# Altium integrated library WE-PD3_rev15a.intlib: 65 symbols
Pins are listed as number, name and electrical type; pins without a type are passive.

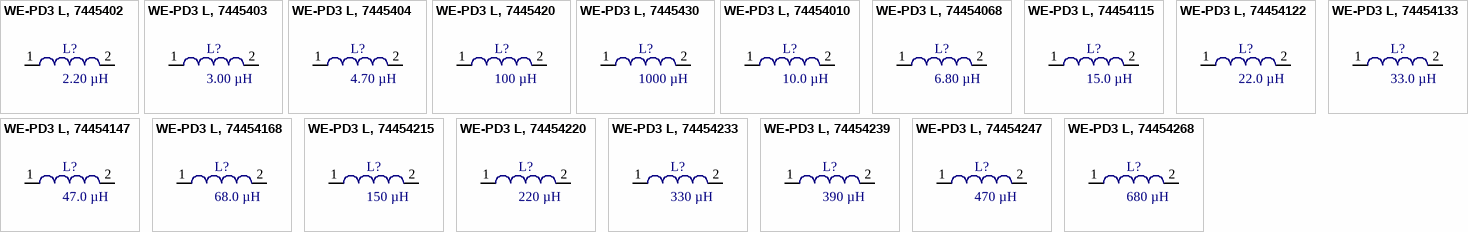
[diagram p0: symbols WE-PD3 L, 7445402 to WE-PD3 L, 74454268]

## WE-PD3 L, 7445402
designator L?, comment 2.20 µH
SMD Shielded Power Inductor WE-PD3, L=2.20 µH; partNo: 7445402; Manufacturer: Würth Elektronik eiSos GmbH & Co.KG; Inductance: 2.20 µH; ComponentLink1Description: Manufacturer; ComponentLink1URL: http://www.we-online.de; Created by: Christin Zierenner; Created Date: August 2009; ComponentLink2Description: Datasheet; ComponentLink2URL: http://www.we-online.de/katalog/media/pdf/7445402.pdf
footprint WE-PD3 L (SMD Inductor, 2-Leads, Body 12,7x10,3mm)
pins: 1, 2

## WE-PD3 L, 7445403
designator L?, comment 3.00 µH
SMD Shielded Power Inductor WE-PD3, L=3.00 µH; partNo: 7445403; Manufacturer: Würth Elektronik eiSos GmbH & Co.KG; Inductance: 3.00 µH; ComponentLink1Description: Manufacturer; ComponentLink1URL: http://www.we-online.de; Created by: Christin Zierenner; Created Date: August 2009; ComponentLink2Description: Datasheet; ComponentLink2URL: http://www.we-online.de/katalog/media/pdf/7445403.pdf
footprint WE-PD3 L (SMD Inductor, 2-Leads, Body 12,7x10,3mm)
pins: 1, 2

## WE-PD3 L, 7445404
designator L?, comment 4.70 µH
SMD Shielded Power Inductor WE-PD3, L=4.70 µH; partNo: 7445404; Manufacturer: Würth Elektronik eiSos GmbH & Co.KG; Inductance: 4.70 µH; ComponentLink1Description: Manufacturer; ComponentLink1URL: http://www.we-online.de; Created by: Christin Zierenner; Created Date: August 2009; ComponentLink2Description: Datasheet; ComponentLink2URL: http://www.we-online.de/katalog/media/pdf/7445404.pdf
footprint WE-PD3 L (SMD Inductor, 2-Leads, Body 12,7x10,3mm)
pins: 1, 2

## WE-PD3 L, 7445420
designator L?, comment 100 µH
SMD Shielded Power Inductor WE-PD3, L=100 µH; partNo: 7445420; Manufacturer: Würth Elektronik eiSos GmbH & Co.KG; Inductance: 100 µH; ComponentLink1Description: Manufacturer; ComponentLink1URL: http://www.we-online.de; Created by: Christin Zierenner; Created Date: August 2009; ComponentLink2Description: Datasheet; ComponentLink2URL: http://www.we-online.de/katalog/media/pdf/7445420.pdf
footprint WE-PD3 L (SMD Inductor, 2-Leads, Body 12,7x10,3mm)
pins: 1, 2

## WE-PD3 L, 7445430
designator L?, comment 1000 µH
SMD Shielded Power Inductor WE-PD3, L=1000 µH; partNo: 7445430; Manufacturer: Würth Elektronik eiSos GmbH & Co.KG; Inductance: 1000 µH; ComponentLink1Description: Manufacturer; ComponentLink1URL: http://www.we-online.de; Created by: Christin Zierenner; Created Date: August 2009; ComponentLink2Description: Datasheet; ComponentLink2URL: http://www.we-online.de/katalog/media/pdf/7445430.pdf
footprint WE-PD3 L (SMD Inductor, 2-Leads, Body 12,7x10,3mm)
pins: 1, 2

## WE-PD3 L, 74454010
designator L?, comment 10.0 µH
SMD Shielded Power Inductor WE-PD3, L=10.0 µH; partNo: 74454010; Manufacturer: Würth Elektronik eiSos GmbH & Co.KG; Inductance: 10.0 µH; ComponentLink1Description: Manufacturer; ComponentLink1URL: http://www.we-online.de; Created by: Christin Zierenner; Created Date: August 2009; ComponentLink2Description: Datasheet; ComponentLink2URL: http://www.we-online.de/katalog/media/pdf/74454010.pdf
footprint WE-PD3 L (SMD Inductor, 2-Leads, Body 12,7x10,3mm)
pins: 1, 2

## WE-PD3 L, 74454068
designator L?, comment 6.80 µH
SMD Shielded Power Inductor WE-PD3, L=6.80 µH; partNo: 74454068; Manufacturer: Würth Elektronik eiSos GmbH & Co.KG; Inductance: 6.80 µH; ComponentLink1Description: Manufacturer; ComponentLink1URL: http://www.we-online.de; Created by: Christin Zierenner; Created Date: August 2009; ComponentLink2Description: Datasheet; ComponentLink2URL: http://www.we-online.de/katalog/media/pdf/74454068.pdf
footprint WE-PD3 L (SMD Inductor, 2-Leads, Body 12,7x10,3mm)
pins: 1, 2

## WE-PD3 L, 74454115
designator L?, comment 15.0 µH
SMD Shielded Power Inductor WE-PD3, L=15.0 µH; partNo: 74454115; Manufacturer: Würth Elektronik eiSos GmbH & Co.KG; Inductance: 15.0 µH; ComponentLink1Description: Manufacturer; ComponentLink1URL: http://www.we-online.de; Created by: Christin Zierenner; Created Date: August 2009; ComponentLink2Description: Datasheet; ComponentLink2URL: http://www.we-online.de/katalog/media/pdf/74454115.pdf
footprint WE-PD3 L (SMD Inductor, 2-Leads, Body 12,7x10,3mm)
pins: 1, 2

## WE-PD3 L, 74454122
designator L?, comment 22.0 µH
SMD Shielded Power Inductor WE-PD3, L=22.0 µH; partNo: 74454122; Manufacturer: Würth Elektronik eiSos GmbH & Co.KG; Inductance: 22.0 µH; ComponentLink1Description: Manufacturer; ComponentLink1URL: http://www.we-online.de; Created by: Christin Zierenner; Created Date: August 2009; ComponentLink2Description: Datasheet; ComponentLink2URL: http://www.we-online.de/katalog/media/pdf/74454122.pdf
footprint WE-PD3 L (SMD Inductor, 2-Leads, Body 12,7x10,3mm)
pins: 1, 2

## WE-PD3 L, 74454133
designator L?, comment 33.0 µH
SMD Shielded Power Inductor WE-PD3, L=33.0 µH; partNo: 74454133; Manufacturer: Würth Elektronik eiSos GmbH & Co.KG; Inductance: 33.0 µH; ComponentLink1Description: Manufacturer; ComponentLink1URL: http://www.we-online.de; Created by: Christin Zierenner; Created Date: August 2009; ComponentLink2Description: Datasheet; ComponentLink2URL: http://www.we-online.de/katalog/media/pdf/74454133.pdf
footprint WE-PD3 L (SMD Inductor, 2-Leads, Body 12,7x10,3mm)
pins: 1, 2

## WE-PD3 L, 74454147
designator L?, comment 47.0 µH
SMD Shielded Power Inductor WE-PD3, L=47.0 µH; partNo: 74454147; Manufacturer: Würth Elektronik eiSos GmbH & Co.KG; Inductance: 47.0 µH; ComponentLink1Description: Manufacturer; ComponentLink1URL: http://www.we-online.de; Created by: Christin Zierenner; Created Date: August 2009; ComponentLink2Description: Datasheet; ComponentLink2URL: http://www.we-online.de/katalog/media/pdf/74454147.pdf
footprint WE-PD3 L (SMD Inductor, 2-Leads, Body 12,7x10,3mm)
pins: 1, 2

## WE-PD3 L, 74454168
designator L?, comment 68.0 µH
SMD Shielded Power Inductor WE-PD3, L=68.0 µH; partNo: 74454168; Manufacturer: Würth Elektronik eiSos GmbH & Co.KG; Inductance: 68.0 µH; ComponentLink1Description: Manufacturer; ComponentLink1URL: http://www.we-online.de; Created by: Christin Zierenner; Created Date: August 2009; ComponentLink2Description: Datasheet; ComponentLink2URL: http://www.we-online.de/katalog/media/pdf/74454168.pdf
footprint WE-PD3 L (SMD Inductor, 2-Leads, Body 12,7x10,3mm)
pins: 1, 2

## WE-PD3 L, 74454215
designator L?, comment 150 µH
SMD Shielded Power Inductor WE-PD3, L=150 µH; partNo: 74454215; Manufacturer: Würth Elektronik eiSos GmbH & Co.KG; Inductance: 150 µH; ComponentLink1Description: Manufacturer; ComponentLink1URL: http://www.we-online.de; Created by: Christin Zierenner; Created Date: August 2009; ComponentLink2Description: Datasheet; ComponentLink2URL: http://www.we-online.de/katalog/media/pdf/74454215.pdf
footprint WE-PD3 L (SMD Inductor, 2-Leads, Body 12,7x10,3mm)
pins: 1, 2

## WE-PD3 L, 74454220
designator L?, comment 220 µH
SMD Shielded Power Inductor WE-PD3, L=220 µH; partNo: 74454220; Manufacturer: Würth Elektronik eiSos GmbH & Co.KG; Inductance: 220 µH; ComponentLink1Description: Manufacturer; ComponentLink1URL: http://www.we-online.de; Created by: Christin Zierenner; Created Date: August 2009; ComponentLink2Description: Datasheet; ComponentLink2URL: http://www.we-online.de/katalog/media/pdf/74454220.pdf
footprint WE-PD3 L (SMD Inductor, 2-Leads, Body 12,7x10,3mm)
pins: 1, 2

## WE-PD3 L, 74454233
designator L?, comment 330 µH
SMD Shielded Power Inductor WE-PD3, L=330 µH; partNo: 74454233; Manufacturer: Würth Elektronik eiSos GmbH & Co.KG; Inductance: 330 µH; ComponentLink1Description: Manufacturer; ComponentLink1URL: http://www.we-online.de; Created by: Christin Zierenner; Created Date: August 2009; ComponentLink2Description: Datasheet; ComponentLink2URL: http://www.we-online.de/katalog/media/pdf/74454233.pdf
footprint WE-PD3 L (SMD Inductor, 2-Leads, Body 12,7x10,3mm)
pins: 1, 2

## WE-PD3 L, 74454239
designator L?, comment 390 µH
SMD Shielded Power Inductor WE-PD3, L=390 µH; partNo: 74454239; Manufacturer: Würth Elektronik eiSos GmbH & Co.KG; Inductance: 390 µH; ComponentLink1Description: Manufacturer; ComponentLink1URL: http://www.we-online.de; Created by: Christin Zierenner; Created Date: August 2009; ComponentLink2Description: Datasheet; ComponentLink2URL: http://www.we-online.de/katalog/media/pdf/74454239.pdf
footprint WE-PD3 L (SMD Inductor, 2-Leads, Body 12,7x10,3mm)
pins: 1, 2

## WE-PD3 L, 74454247
designator L?, comment 470 µH
SMD Shielded Power Inductor WE-PD3, L=470 µH; partNo: 74454247; Manufacturer: Würth Elektronik eiSos GmbH & Co.KG; Inductance: 470 µH; ComponentLink1Description: Manufacturer; ComponentLink1URL: http://www.we-online.de; Created by: Christin Zierenner; Created Date: August 2009; ComponentLink2Description: Datasheet; ComponentLink2URL: http://www.we-online.de/katalog/media/pdf/74454247.pdf
footprint WE-PD3 L (SMD Inductor, 2-Leads, Body 12,7x10,3mm)
pins: 1, 2

## WE-PD3 L, 74454268
designator L?, comment 680 µH
SMD Shielded Power Inductor WE-PD3, L=680 µH; partNo: 74454268; Manufacturer: Würth Elektronik eiSos GmbH & Co.KG; Inductance: 680 µH; ComponentLink1Description: Manufacturer; ComponentLink1URL: http://www.we-online.de; Created by: Christin Zierenner; Created Date: August 2009; ComponentLink2Description: Datasheet; ComponentLink2URL: http://www.we-online.de/katalog/media/pdf/74454268.pdf
footprint WE-PD3 L (SMD Inductor, 2-Leads, Body 12,7x10,3mm)
pins: 1, 2


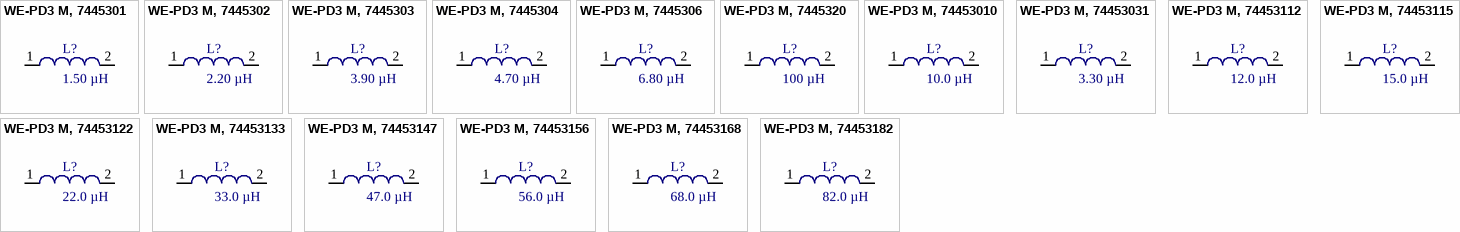
[diagram p1: symbols WE-PD3 M, 7445301 to WE-PD3 M, 74453182]

## WE-PD3 M, 7445301
designator L?, comment 1.50 µH
SMD Shielded Power Inductor WE-PD3, L=1.50 µH; partNo: 7445301; Manufacturer: Würth Elektronik eiSos GmbH; Inductance: 1.50 µH; ComponentLink1Description: Manufacturer; ComponentLink1URL: http://www.we-online.de; Created by: Christin Zierenner; Created Date: August 2009; ComponentLink2Description: Datasheet; ComponentLink2URL: http://www.we-online.de/katalog/media/pdf/7445301.pdf
footprint WE-PD3 M (SMD Inductor, 2-Leads, Body 12,7x10,3mm)
pins: 1, 2

## WE-PD3 M, 7445302
designator L?, comment 2.20 µH
SMD Shielded Power Inductor WE-PD3, L=2.20 µH; partNo: 7445302; Manufacturer: Würth Elektronik eiSos GmbH; Inductance: 2.20 µH; ComponentLink1Description: Manufacturer; ComponentLink1URL: http://www.we-online.de; Created by: Christin Zierenner; Created Date: August 2009; ComponentLink2Description: Datasheet; ComponentLink2URL: http://www.we-online.de/katalog/media/pdf/7445302.pdf
footprint WE-PD3 M (SMD Inductor, 2-Leads, Body 12,7x10,3mm)
pins: 1, 2

## WE-PD3 M, 7445303
designator L?, comment 3.90 µH
SMD Shielded Power Inductor WE-PD3, L=3.90 µH; partNo: 7445303; Manufacturer: Würth Elektronik eiSos GmbH; Inductance: 3.90 µH; ComponentLink1Description: Manufacturer; ComponentLink1URL: http://www.we-online.de; Created by: Christin Zierenner; Created Date: August 2009; ComponentLink2Description: Datasheet; ComponentLink2URL: http://www.we-online.de/katalog/media/pdf/7445303.pdf
footprint WE-PD3 M (SMD Inductor, 2-Leads, Body 12,7x10,3mm)
pins: 1, 2

## WE-PD3 M, 7445304
designator L?, comment 4.70 µH
SMD Shielded Power Inductor WE-PD3, L=4.70 µH; partNo: 7445304; Manufacturer: Würth Elektronik eiSos GmbH; Inductance: 4.70 µH; ComponentLink1Description: Manufacturer; ComponentLink1URL: http://www.we-online.de; Created by: Christin Zierenner; Created Date: August 2009; ComponentLink2Description: Datasheet; ComponentLink2URL: http://www.we-online.de/katalog/media/pdf/7445304.pdf
footprint WE-PD3 M (SMD Inductor, 2-Leads, Body 12,7x10,3mm)
pins: 1, 2

## WE-PD3 M, 7445306
designator L?, comment 6.80 µH
SMD Shielded Power Inductor WE-PD3, L=6.80 µH; partNo: 7445306; Manufacturer: Würth Elektronik eiSos GmbH; Inductance: 6.80 µH; ComponentLink1Description: Manufacturer; ComponentLink1URL: http://www.we-online.de; Created by: Christin Zierenner; Created Date: August 2009; ComponentLink2Description: Datasheet; ComponentLink2URL: http://www.we-online.de/katalog/media/pdf/7445306.pdf
footprint WE-PD3 M (SMD Inductor, 2-Leads, Body 12,7x10,3mm)
pins: 1, 2

## WE-PD3 M, 7445320
designator L?, comment 100 µH
SMD Shielded Power Inductor WE-PD3, L=100 µH; partNo: 7445320; Manufacturer: Würth Elektronik eiSos GmbH; Inductance: 100 µH; ComponentLink1Description: Manufacturer; ComponentLink1URL: http://www.we-online.de; Created by: Christin Zierenner; Created Date: August 2009; ComponentLink2Description: Datasheet; ComponentLink2URL: http://www.we-online.de/katalog/media/pdf/7445320.pdf
footprint WE-PD3 M (SMD Inductor, 2-Leads, Body 12,7x10,3mm)
pins: 1, 2

## WE-PD3 M, 74453010
designator L?, comment 10.0 µH
SMD Shielded Power Inductor WE-PD3, L=10.0 µH; partNo: 74453010; Manufacturer: Würth Elektronik eiSos GmbH; Inductance: 10.0 µH; ComponentLink1Description: Manufacturer; ComponentLink1URL: http://www.we-online.de; Created by: Christin Zierenner; Created Date: August 2009; ComponentLink2Description: Datasheet; ComponentLink2URL: http://www.we-online.de/katalog/media/pdf/74453010.pdf
footprint WE-PD3 M (SMD Inductor, 2-Leads, Body 12,7x10,3mm)
pins: 1, 2

## WE-PD3 M, 74453031
designator L?, comment 3.30 µH
SMD Shielded Power Inductor WE-PD3, L=3.30 µH; partNo: 74453031; Manufacturer: Würth Elektronik eiSos GmbH; Inductance: 3.30 µH; ComponentLink1Description: Manufacturer; ComponentLink1URL: http://www.we-online.de; Created by: Christin Zierenner; Created Date: August 2009; ComponentLink2Description: Datasheet; ComponentLink2URL: http://www.we-online.de/katalog/media/pdf/74453031.pdf
footprint WE-PD3 M (SMD Inductor, 2-Leads, Body 12,7x10,3mm)
pins: 1, 2

## WE-PD3 M, 74453112
designator L?, comment 12.0 µH
SMD Shielded Power Inductor WE-PD3, L=12.0 µH; partNo: 74453112; Manufacturer: Würth Elektronik eiSos GmbH; Inductance: 12.0 µH; ComponentLink1Description: Manufacturer; ComponentLink1URL: http://www.we-online.de; Created by: Christin Zierenner; Created Date: August 2009; ComponentLink2Description: Datasheet; ComponentLink2URL: http://www.we-online.de/katalog/media/pdf/74453112.pdf
footprint WE-PD3 M (SMD Inductor, 2-Leads, Body 12,7x10,3mm)
pins: 1, 2

## WE-PD3 M, 74453115
designator L?, comment 15.0 µH
SMD Shielded Power Inductor WE-PD3, L=15.0 µH; partNo: 74453115; Manufacturer: Würth Elektronik eiSos GmbH; Inductance: 15.0 µH; ComponentLink1Description: Manufacturer; ComponentLink1URL: http://www.we-online.de; Created by: Christin Zierenner; Created Date: August 2009; ComponentLink2Description: Datasheet; ComponentLink2URL: http://www.we-online.de/katalog/media/pdf/74453115.pdf
footprint WE-PD3 M (SMD Inductor, 2-Leads, Body 12,7x10,3mm)
pins: 1, 2

## WE-PD3 M, 74453122
designator L?, comment 22.0 µH
SMD Shielded Power Inductor WE-PD3, L=22.0 µH; partNo: 74453122; Manufacturer: Würth Elektronik eiSos GmbH; Inductance: 22.0 µH; ComponentLink1Description: Manufacturer; ComponentLink1URL: http://www.we-online.de; Created by: Christin Zierenner; Created Date: August 2009; ComponentLink2Description: Datasheet; ComponentLink2URL: http://www.we-online.de/katalog/media/pdf/74453122.pdf
footprint WE-PD3 M (SMD Inductor, 2-Leads, Body 12,7x10,3mm)
pins: 1, 2

## WE-PD3 M, 74453133
designator L?, comment 33.0 µH
SMD Shielded Power Inductor WE-PD3, L=33.0 µH; partNo: 74453133; Manufacturer: Würth Elektronik eiSos GmbH; Inductance: 33.0 µH; ComponentLink1Description: Manufacturer; ComponentLink1URL: http://www.we-online.de; Created by: Christin Zierenner; Created Date: August 2009; ComponentLink2Description: Datasheet; ComponentLink2URL: http://www.we-online.de/katalog/media/pdf/74453133.pdf
footprint WE-PD3 M (SMD Inductor, 2-Leads, Body 12,7x10,3mm)
pins: 1, 2

## WE-PD3 M, 74453147
designator L?, comment 47.0 µH
SMD Shielded Power Inductor WE-PD3, L=47.0 µH; partNo: 74453147; Manufacturer: Würth Elektronik eiSos GmbH; Inductance: 47.0 µH; ComponentLink1Description: Manufacturer; ComponentLink1URL: http://www.we-online.de; Created by: Christin Zierenner; Created Date: August 2009; ComponentLink2Description: Datasheet; ComponentLink2URL: http://www.we-online.de/katalog/media/pdf/74453147.pdf
footprint WE-PD3 M (SMD Inductor, 2-Leads, Body 12,7x10,3mm)
pins: 1, 2

## WE-PD3 M, 74453156
designator L?, comment 56.0 µH
SMD Shielded Power Inductor WE-PD3, L=56.0 µH; partNo: 74453156; Manufacturer: Würth Elektronik eiSos GmbH; Inductance: 56.0 µH; ComponentLink1Description: Manufacturer; ComponentLink1URL: http://www.we-online.de; Created by: Christin Zierenner; Created Date: August 2009; ComponentLink2Description: Datasheet; ComponentLink2URL: http://www.we-online.de/katalog/media/pdf/74453156.pdf
footprint WE-PD3 M (SMD Inductor, 2-Leads, Body 12,7x10,3mm)
pins: 1, 2

## WE-PD3 M, 74453168
designator L?, comment 68.0 µH
SMD Shielded Power Inductor WE-PD3, L=68.0 µH; partNo: 74453168; Manufacturer: Würth Elektronik eiSos GmbH; Inductance: 68.0 µH; ComponentLink1Description: Manufacturer; ComponentLink1URL: http://www.we-online.de; Created by: Christin Zierenner; Created Date: August 2009; ComponentLink2Description: Datasheet; ComponentLink2URL: http://www.we-online.de/katalog/media/pdf/74453168.pdf
footprint WE-PD3 M (SMD Inductor, 2-Leads, Body 12,7x10,3mm)
pins: 1, 2

## WE-PD3 M, 74453182
designator L?, comment 82.0 µH
SMD Shielded Power Inductor WE-PD3, L=82.0 µH; partNo: 74453182; Manufacturer: Würth Elektronik eiSos GmbH; Inductance: 82.0 µH; ComponentLink1Description: Manufacturer; ComponentLink1URL: http://www.we-online.de; Created by: Christin Zierenner; Created Date: August 2009; ComponentLink2Description: Datasheet; ComponentLink2URL: http://www.we-online.de/katalog/media/pdf/74453182.pdf
footprint WE-PD3 M (SMD Inductor, 2-Leads, Body 12,7x10,3mm)
pins: 1, 2


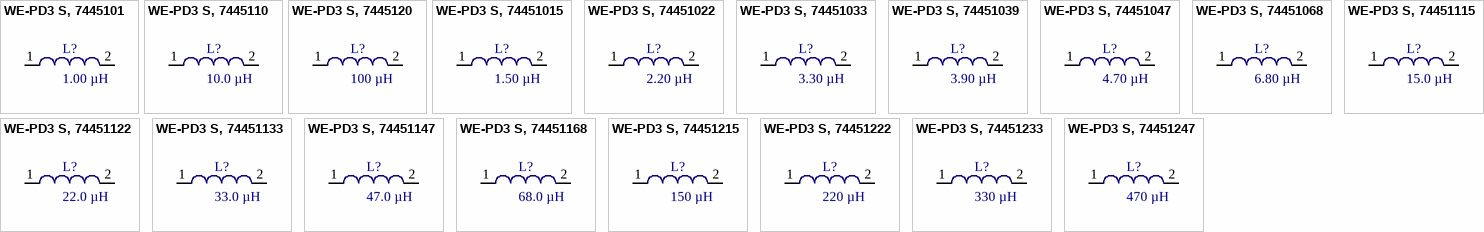
[diagram p2: symbols WE-PD3 S, 7445101 to WE-PD3 S, 74451247]

## WE-PD3 S, 7445101
designator L?, comment 1.00 µH
SMD Shielded Power Inductor WE-PD3, L=1.00 µH; partNo: 7445101; Manufacturer: Würth Elektronik eiSos GmbH; Inductance: 1.00 µH; ComponentLink1Description: Manufacturer; ComponentLink1URL: http://www.we-online.de; Created by: Christin Zierenner; Created Date: August 2009; ComponentLink2Description: Datasheet; ComponentLink2URL: http://www.we-online.de/katalog/media/pdf/7445101.pdf
footprint WE-PD3 S (SMD Inductor, 2-Leads, Body 6,6x4,4mm)
pins: 1, 2

## WE-PD3 S, 7445110
designator L?, comment 10.0 µH
SMD Shielded Power Inductor WE-PD3, L=10.0 µH; partNo: 7445110; Manufacturer: Würth Elektronik eiSos GmbH; Inductance: 10.0 µH; ComponentLink1Description: Manufacturer; ComponentLink1URL: http://www.we-online.de; Created by: Christin Zierenner; Created Date: August 2009; ComponentLink2Description: Datasheet; ComponentLink2URL: http://www.we-online.de/katalog/media/pdf/7445110.pdf
footprint WE-PD3 S (SMD Inductor, 2-Leads, Body 6,6x4,4mm)
pins: 1, 2

## WE-PD3 S, 7445120
designator L?, comment 100 µH
SMD Shielded Power Inductor WE-PD3, L=100 µH; partNo: 7445120; Manufacturer: Würth Elektronik eiSos GmbH; Inductance: 100 µH; ComponentLink1Description: Manufacturer; ComponentLink1URL: http://www.we-online.de; Created by: Christin Zierenner; Created Date: August 2009; ComponentLink2Description: Datasheet; ComponentLink2URL: http://www.we-online.de/katalog/media/pdf/7445120.pdf
footprint WE-PD3 S (SMD Inductor, 2-Leads, Body 6,6x4,4mm)
pins: 1, 2

## WE-PD3 S, 74451015
designator L?, comment 1.50 µH
SMD Shielded Power Inductor WE-PD3, L=1.50 µH; partNo: 74451015; Manufacturer: Würth Elektronik eiSos GmbH; Inductance: 1.50 µH; ComponentLink1Description: Manufacturer; ComponentLink1URL: http://www.we-online.de; Created by: Christin Zierenner; Created Date: August 2009; ComponentLink2Description: Datasheet; ComponentLink2URL: http://www.we-online.de/katalog/media/pdf/74451015.pdf
footprint WE-PD3 S (SMD Inductor, 2-Leads, Body 6,6x4,4mm)
pins: 1, 2

## WE-PD3 S, 74451022
designator L?, comment 2.20 µH
SMD Shielded Power Inductor WE-PD3, L=2.20 µH; partNo: 74451022; Manufacturer: Würth Elektronik eiSos GmbH; Inductance: 2.20 µH; ComponentLink1Description: Manufacturer; ComponentLink1URL: http://www.we-online.de; Created by: Christin Zierenner; Created Date: August 2009; ComponentLink2Description: Datasheet; ComponentLink2URL: http://www.we-online.de/katalog/media/pdf/74451022.pdf
footprint WE-PD3 S (SMD Inductor, 2-Leads, Body 6,6x4,4mm)
pins: 1, 2

## WE-PD3 S, 74451033
designator L?, comment 3.30 µH
SMD Shielded Power Inductor WE-PD3, L=3.30 µH; partNo: 74451033; Manufacturer: Würth Elektronik eiSos GmbH; Inductance: 3.30 µH; ComponentLink1Description: Manufacturer; ComponentLink1URL: http://www.we-online.de; Created by: Christin Zierenner; Created Date: August 2009; ComponentLink2Description: Datasheet; ComponentLink2URL: http://www.we-online.de/katalog/media/pdf/74451033.pdf
footprint WE-PD3 S (SMD Inductor, 2-Leads, Body 6,6x4,4mm)
pins: 1, 2

## WE-PD3 S, 74451039
designator L?, comment 3.90 µH
SMD Shielded Power Inductor WE-PD3, L=3.90 µH; partNo: 74451039; Manufacturer: Würth Elektronik eiSos GmbH; Inductance: 3.90 µH; ComponentLink1Description: Manufacturer; ComponentLink1URL: http://www.we-online.de; Created by: Christin Zierenner; Created Date: August 2009; ComponentLink2Description: Datasheet; ComponentLink2URL: http://www.we-online.de/katalog/media/pdf/74451039.pdf
footprint WE-PD3 S (SMD Inductor, 2-Leads, Body 6,6x4,4mm)
pins: 1, 2

## WE-PD3 S, 74451047
designator L?, comment 4.70 µH
SMD Shielded Power Inductor WE-PD3, L=4.70 µH; partNo: 74451047; Manufacturer: Würth Elektronik eiSos GmbH; Inductance: 4.70 µH; ComponentLink1Description: Manufacturer; ComponentLink1URL: http://www.we-online.de; Created by: Christin Zierenner; Created Date: August 2009; ComponentLink2Description: Datasheet; ComponentLink2URL: http://www.we-online.de/katalog/media/pdf/74451047.pdf
footprint WE-PD3 S (SMD Inductor, 2-Leads, Body 6,6x4,4mm)
pins: 1, 2

## WE-PD3 S, 74451068
designator L?, comment 6.80 µH
SMD Shielded Power Inductor WE-PD3, L=6.80 µH; partNo: 74451068; Manufacturer: Würth Elektronik eiSos GmbH; Inductance: 6.80 µH; ComponentLink1Description: Manufacturer; ComponentLink1URL: http://www.we-online.de; Created by: Christin Zierenner; Created Date: August 2009; ComponentLink2Description: Datasheet; ComponentLink2URL: http://www.we-online.de/katalog/media/pdf/74451068.pdf
footprint WE-PD3 S (SMD Inductor, 2-Leads, Body 6,6x4,4mm)
pins: 1, 2

## WE-PD3 S, 74451115
designator L?, comment 15.0 µH
SMD Shielded Power Inductor WE-PD3, L=15.0 µH; partNo: 74451115; Manufacturer: Würth Elektronik eiSos GmbH; Inductance: 15.0 µH; ComponentLink1Description: Manufacturer; ComponentLink1URL: http://www.we-online.de; Created by: Christin Zierenner; Created Date: August 2009; ComponentLink2Description: Datasheet; ComponentLink2URL: http://www.we-online.de/katalog/media/pdf/74451115.pdf
footprint WE-PD3 S (SMD Inductor, 2-Leads, Body 6,6x4,4mm)
pins: 1, 2

## WE-PD3 S, 74451122
designator L?, comment 22.0 µH
SMD Shielded Power Inductor WE-PD3, L=22.0 µH; partNo: 74451122; Manufacturer: Würth Elektronik eiSos GmbH; Inductance: 22.0 µH; ComponentLink1Description: Manufacturer; ComponentLink1URL: http://www.we-online.de; Created by: Christin Zierenner; Created Date: August 2009; ComponentLink2Description: Datasheet; ComponentLink2URL: http://www.we-online.de/katalog/media/pdf/74451122.pdf
footprint WE-PD3 S (SMD Inductor, 2-Leads, Body 6,6x4,4mm)
pins: 1, 2

## WE-PD3 S, 74451133
designator L?, comment 33.0 µH
SMD Shielded Power Inductor WE-PD3, L=33.0 µH; partNo: 74451133; Manufacturer: Würth Elektronik eiSos GmbH; Inductance: 33.0 µH; ComponentLink1Description: Manufacturer; ComponentLink1URL: http://www.we-online.de; Created by: Christin Zierenner; Created Date: August 2009; ComponentLink2Description: Datasheet; ComponentLink2URL: http://www.we-online.de/katalog/media/pdf/74451133.pdf
footprint WE-PD3 S (SMD Inductor, 2-Leads, Body 6,6x4,4mm)
pins: 1, 2

## WE-PD3 S, 74451147
designator L?, comment 47.0 µH
SMD Shielded Power Inductor WE-PD3, L=47.0 µH; partNo: 74451147; Manufacturer: Würth Elektronik eiSos GmbH; Inductance: 47.0 µH; ComponentLink1Description: Manufacturer; ComponentLink1URL: http://www.we-online.de; Created by: Christin Zierenner; Created Date: August 2009; ComponentLink2Description: Datasheet; ComponentLink2URL: http://www.we-online.de/katalog/media/pdf/74451147.pdf
footprint WE-PD3 S (SMD Inductor, 2-Leads, Body 6,6x4,4mm)
pins: 1, 2

## WE-PD3 S, 74451168
designator L?, comment 68.0 µH
SMD Shielded Power Inductor WE-PD3, L=68.0 µH; partNo: 74451168; Manufacturer: Würth Elektronik eiSos GmbH; Inductance: 68.0 µH; ComponentLink1Description: Manufacturer; ComponentLink1URL: http://www.we-online.de; Created by: Christin Zierenner; Created Date: August 2009; ComponentLink2Description: Datasheet; ComponentLink2URL: http://www.we-online.de/katalog/media/pdf/74451168.pdf
footprint WE-PD3 S (SMD Inductor, 2-Leads, Body 6,6x4,4mm)
pins: 1, 2

## WE-PD3 S, 74451215
designator L?, comment 150 µH
SMD Shielded Power Inductor WE-PD3, L=150 µH; partNo: 74451215; Manufacturer: Würth Elektronik eiSos GmbH; Inductance: 150 µH; ComponentLink1Description: Manufacturer; ComponentLink1URL: http://www.we-online.de; Created by: Christin Zierenner; Created Date: August 2009; ComponentLink2Description: Datasheet; ComponentLink2URL: http://www.we-online.de/katalog/media/pdf/74451215.pdf
footprint WE-PD3 S (SMD Inductor, 2-Leads, Body 6,6x4,4mm)
pins: 1, 2

## WE-PD3 S, 74451222
designator L?, comment 220 µH
SMD Shielded Power Inductor WE-PD3, L=220 µH; partNo: 74451222; Manufacturer: Würth Elektronik eiSos GmbH; Inductance: 220 µH; ComponentLink1Description: Manufacturer; ComponentLink1URL: http://www.we-online.de; Created by: Christin Zierenner; Created Date: August 2009; ComponentLink2Description: Datasheet; ComponentLink2URL: http://www.we-online.de/katalog/media/pdf/74451222.pdf
footprint WE-PD3 S (SMD Inductor, 2-Leads, Body 6,6x4,4mm)
pins: 1, 2

## WE-PD3 S, 74451233
designator L?, comment 330 µH
SMD Shielded Power Inductor WE-PD3, L=330 µH; partNo: 74451233; Manufacturer: Würth Elektronik eiSos GmbH; Inductance: 330 µH; ComponentLink1Description: Manufacturer; ComponentLink1URL: http://www.we-online.de; Created by: Christin Zierenner; Created Date: August 2009; ComponentLink2Description: Datasheet; ComponentLink2URL: http://www.we-online.de/katalog/media/pdf/74451233.pdf
footprint WE-PD3 S (SMD Inductor, 2-Leads, Body 6,6x4,4mm)
pins: 1, 2

## WE-PD3 S, 74451247
designator L?, comment 470 µH
SMD Shielded Power Inductor WE-PD3, L=470 µH; partNo: 74451247; Manufacturer: Würth Elektronik eiSos GmbH; Inductance: 470 µH; ComponentLink1Description: Manufacturer; ComponentLink1URL: http://www.we-online.de; Created by: Christin Zierenner; Created Date: August 2009; ComponentLink2Description: Datasheet; ComponentLink2URL: http://www.we-online.de/katalog/media/pdf/74451247.pdf
footprint WE-PD3 S (SMD Inductor, 2-Leads, Body 6,6x4,4mm)
pins: 1, 2


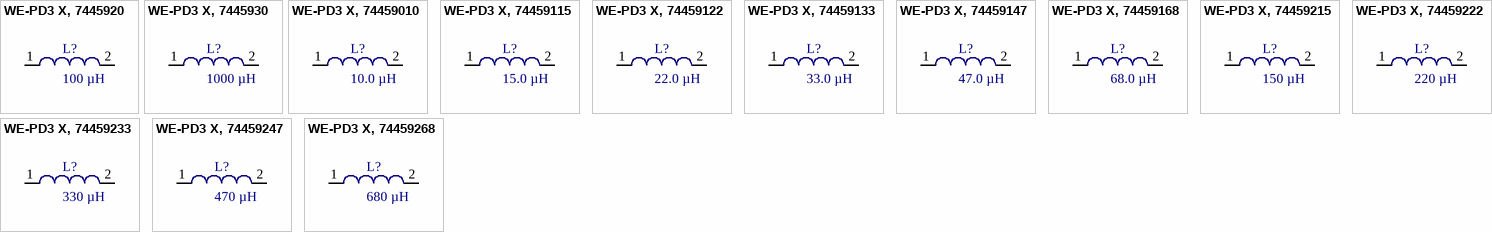
[diagram p3: symbols WE-PD3 X, 7445920 to WE-PD3 X, 74459268]

## WE-PD3 X, 7445920
designator L?, comment 100 µH
SMD Shielded Power Inductor WE-PD3, L=100 µH; partNo: 7445920; Manufacturer: Würth Elektronik eiSos GmbH & Co.KG; Inductance: 100 µH; ComponentLink1Description: Manufacturer; ComponentLink1URL: http://www.we-online.de; Created by: Christin Zierenner; Created Date: September 2009; ComponentLink2Description: Datasheet; ComponentLink2URL: http://www.we-online.de/katalog/media/pdf/7445920.pdf
footprint WE-PD3 X (SMD Inductor, 2-Leads, Body 18,5x15,2mm)
pins: 1, 2

## WE-PD3 X, 7445930
designator L?, comment 1000 µH
SMD Shielded Power Inductor WE-PD3, L=1000 µH; partNo: 7445930; Manufacturer: Würth Elektronik eiSos GmbH & Co.KG; Inductance: 1000 µH; ComponentLink1Description: Manufacturer; ComponentLink1URL: http://www.we-online.de; Created by: Christin Zierenner; Created Date: September 2009; ComponentLink2Description: Datasheet; ComponentLink2URL: http://www.we-online.de/katalog/media/pdf/7445930.pdf
footprint WE-PD3 X (SMD Inductor, 2-Leads, Body 18,5x15,2mm)
pins: 1, 2

## WE-PD3 X, 74459010
designator L?, comment 10.0 µH
SMD Shielded Power Inductor WE-PD3, L=10.0 µH; partNo: 74459010; Manufacturer: Würth Elektronik eiSos GmbH & Co.KG; Inductance: 10.0 µH; ComponentLink1Description: Manufacturer; ComponentLink1URL: http://www.we-online.de; Created by: Christin Zierenner; Created Date: September 2009; ComponentLink2Description: Datasheet; ComponentLink2URL: http://www.we-online.de/katalog/media/pdf/74459010.pdf
footprint WE-PD3 X (SMD Inductor, 2-Leads, Body 18,5x15,2mm)
pins: 1, 2

## WE-PD3 X, 74459115
designator L?, comment 15.0 µH
SMD Shielded Power Inductor WE-PD3, L=15.0 µH; partNo: 74459115; Manufacturer: Würth Elektronik eiSos GmbH & Co.KG; Inductance: 15.0 µH; ComponentLink1Description: Manufacturer; ComponentLink1URL: http://www.we-online.de; Created by: Christin Zierenner; Created Date: September 2009; ComponentLink2Description: Datasheet; ComponentLink2URL: http://www.we-online.de/katalog/media/pdf/74459115.pdf
footprint WE-PD3 X (SMD Inductor, 2-Leads, Body 18,5x15,2mm)
pins: 1, 2

## WE-PD3 X, 74459122
designator L?, comment 22.0 µH
SMD Shielded Power Inductor WE-PD3, L=22.0 µH; partNo: 74459122; Manufacturer: Würth Elektronik eiSos GmbH & Co.KG; Inductance: 22.0 µH; ComponentLink1Description: Manufacturer; ComponentLink1URL: http://www.we-online.de; Created by: Christin Zierenner; Created Date: September 2009; ComponentLink2Description: Datasheet; ComponentLink2URL: http://www.we-online.de/katalog/media/pdf/74459122.pdf
footprint WE-PD3 X (SMD Inductor, 2-Leads, Body 18,5x15,2mm)
pins: 1, 2

## WE-PD3 X, 74459133
designator L?, comment 33.0 µH
SMD Shielded Power Inductor WE-PD3, L=33.0 µH; partNo: 74459133; Manufacturer: Würth Elektronik eiSos GmbH & Co.KG; Inductance: 33.0 µH; ComponentLink1Description: Manufacturer; ComponentLink1URL: http://www.we-online.de; Created by: Christin Zierenner; Created Date: September 2009; ComponentLink2Description: Datasheet; ComponentLink2URL: http://www.we-online.de/katalog/media/pdf/74459133.pdf
footprint WE-PD3 X (SMD Inductor, 2-Leads, Body 18,5x15,2mm)
pins: 1, 2

## WE-PD3 X, 74459147
designator L?, comment 47.0 µH
SMD Shielded Power Inductor WE-PD3, L=47.0 µH; partNo: 74459147; Manufacturer: Würth Elektronik eiSos GmbH & Co.KG; Inductance: 47.0 µH; ComponentLink1Description: Manufacturer; ComponentLink1URL: http://www.we-online.de; Created by: Christin Zierenner; Created Date: September 2009; ComponentLink2Description: Datasheet; ComponentLink2URL: http://www.we-online.de/katalog/media/pdf/74459147.pdf
footprint WE-PD3 X (SMD Inductor, 2-Leads, Body 18,5x15,2mm)
pins: 1, 2

## WE-PD3 X, 74459168
designator L?, comment 68.0 µH
SMD Shielded Power Inductor WE-PD3, L=68.0 µH; partNo: 74459168; Manufacturer: Würth Elektronik eiSos GmbH & Co.KG; Inductance: 68.0 µH; ComponentLink1Description: Manufacturer; ComponentLink1URL: http://www.we-online.de; Created by: Christin Zierenner; Created Date: September 2009; ComponentLink2Description: Datasheet; ComponentLink2URL: http://www.we-online.de/katalog/media/pdf/74459168.pdf
footprint WE-PD3 X (SMD Inductor, 2-Leads, Body 18,5x15,2mm)
pins: 1, 2

## WE-PD3 X, 74459215
designator L?, comment 150 µH
SMD Shielded Power Inductor WE-PD3, L=150 µH; partNo: 74459215; Manufacturer: Würth Elektronik eiSos GmbH & Co.KG; Inductance: 150 µH; ComponentLink1Description: Manufacturer; ComponentLink1URL: http://www.we-online.de; Created by: Christin Zierenner; Created Date: September 2009; ComponentLink2Description: Datasheet; ComponentLink2URL: http://www.we-online.de/katalog/media/pdf/74459215.pdf
footprint WE-PD3 X (SMD Inductor, 2-Leads, Body 18,5x15,2mm)
pins: 1, 2

## WE-PD3 X, 74459222
designator L?, comment 220 µH
SMD Shielded Power Inductor WE-PD3, L=220 µH; partNo: 74459222; Manufacturer: Würth Elektronik eiSos GmbH & Co.KG; Inductance: 220 µH; ComponentLink1Description: Manufacturer; ComponentLink1URL: http://www.we-online.de; Created by: Christin Zierenner; Created Date: September 2009; ComponentLink2Description: Datasheet; ComponentLink2URL: http://www.we-online.de/katalog/media/pdf/74459222.pdf
footprint WE-PD3 X (SMD Inductor, 2-Leads, Body 18,5x15,2mm)
pins: 1, 2

## WE-PD3 X, 74459233
designator L?, comment 330 µH
SMD Shielded Power Inductor WE-PD3, L=330 µH; partNo: 74459233; Manufacturer: Würth Elektronik eiSos GmbH & Co.KG; Inductance: 330 µH; ComponentLink1Description: Manufacturer; ComponentLink1URL: http://www.we-online.de; Created by: Christin Zierenner; Created Date: September 2009; ComponentLink2Description: Datasheet; ComponentLink2URL: http://www.we-online.de/katalog/media/pdf/74459233.pdf
footprint WE-PD3 X (SMD Inductor, 2-Leads, Body 18,5x15,2mm)
pins: 1, 2

## WE-PD3 X, 74459247
designator L?, comment 470 µH
SMD Shielded Power Inductor WE-PD3, L=470 µH; partNo: 74459247; Manufacturer: Würth Elektronik eiSos GmbH & Co.KG; Inductance: 470 µH; ComponentLink1Description: Manufacturer; ComponentLink1URL: http://www.we-online.de; Created by: Christin Zierenner; Created Date: September 2009; ComponentLink2Description: Datasheet; ComponentLink2URL: http://www.we-online.de/katalog/media/pdf/74459247.pdf
footprint WE-PD3 X (SMD Inductor, 2-Leads, Body 18,5x15,2mm)
pins: 1, 2

## WE-PD3 X, 74459268
designator L?, comment 680 µH
SMD Shielded Power Inductor WE-PD3, L=680 µH; partNo: 74459268; Manufacturer: Würth Elektronik eiSos GmbH & Co.KG; Inductance: 680 µH; ComponentLink1Description: Manufacturer; ComponentLink1URL: http://www.we-online.de; Created by: Christin Zierenner; Created Date: September 2009; ComponentLink2Description: Datasheet; ComponentLink2URL: http://www.we-online.de/katalog/media/pdf/74459268.pdf
footprint WE-PD3 X (SMD Inductor, 2-Leads, Body 18,5x15,2mm)
pins: 1, 2